# EAGLE library part MPL115A2 (library Freescale)
Miniature I2C Digital Barometer in LGA8 Package - Digitized pressure and temperature information together with programmed calibration coefficients for host micro use - Factory Calibrated - 50 kPa to 115 kPa Absolute Pressure - 1 kPa Accuracy - 2.375 V to 5.5 V Supply - Integrated ADC - I2C Interface - Monotonic Pressure and Temperature Data Outputs
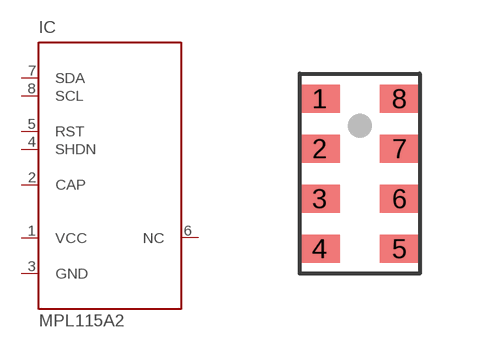
[diagram p0: symbol with the pads of LGA8; footprint LGA8]

Designator prefix IC

## MPL115A2  [LGA8]
1  VCC  pwr
2  CAP  in
3  GND  pwr
4  SHDN  in
5  RST  in
6  NC  nc
7  SDA
8  SCL  in

## Footprint LGA8 (pad centres in mm)
LGA8 Package
smd 1 x 0.7: 1 -1,1.875; 2 -1,0.625; 3 -1,-0.625; 4 -1,-1.875; 5 1,-1.875; 6 1,-0.625; 7 1,0.625; 8 1,1.875